# Altium schematic symbol library SCH - MCU - NUVOTON - NUVOTON MS51DA9AE.SchLib: 1 symbol
Pins are listed as number, name and electrical type; pins without a type are passive.

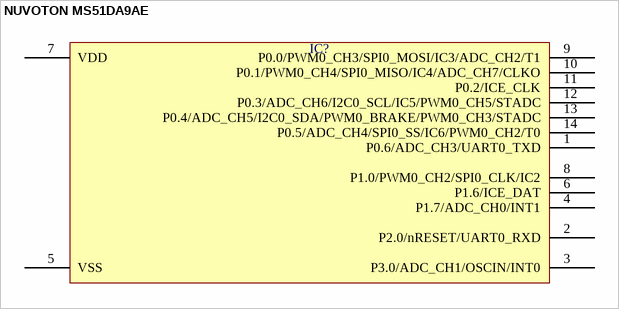
[diagram p0: symbol NUVOTON MS51DA9AE]

## NUVOTON MS51DA9AE
designator IC?  (value not drawn)
pins: 1 P0.6/ADC_CH3/UART0_TXD, 2 P2.0/nRESET/UART0_RXD, 3 P3.0/ADC_CH1/OSCIN/INT0, 4 P1.7/ADC_CH0/INT1, 5 VSS, 6 P1.6/ICE_DAT, 7 VDD, 8 P1.0/PWM0_CH2/SPI0_CLK/IC2, 9 P0.0/PWM0_CH3/SPI0_MOSI/IC3/ADC_CH2/T1, 10 P0.1/PWM0_CH4/SPI0_MISO/IC4/ADC_CH7/CLKO, 11 P0.2/ICE_CLK, 12 P0.3/ADC_CH6/I2C0_SCL/IC5/PWM0_CH5/STADC, 13 P0.4/ADC_CH5/I2C0_SDA/PWM0_BRAKE/PWM0_CH3/STADC, 14 P0.5/ADC_CH4/SPI0_SS/IC6/PWM0_CH2/T0